# Altium integrated library tPad_Yeongmi.IntLib: 44 symbols
Pins are listed as number, name and electrical type; pins without a type are passive.

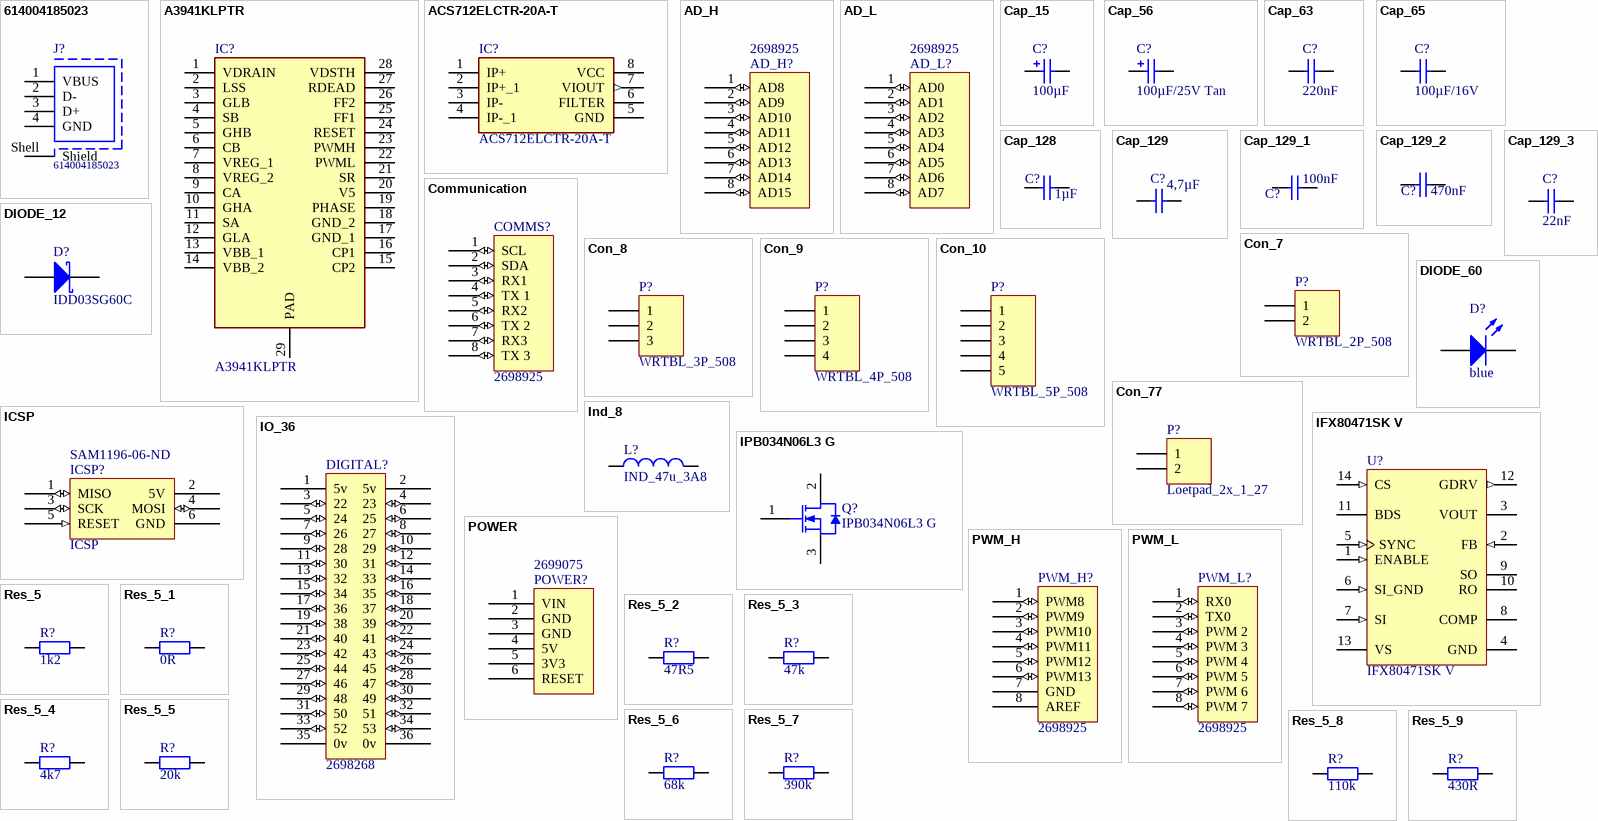
[diagram p0: symbols 614004185023 to Res_5_9]

## 614004185023
designator J?
USB 2.0 Type A Receptacle WR-COM, Vertical, THT, Short Type; Rated Current: 1.5 A; Contact Resistance: 30 mOhm; Working Voltage: 30 VAC; ComponentLink1Description: Manufacturer; ComponentLink1URL: http://www.we-online.de; ComponentLink2Description: Datasheet; ComponentLink2URL: https://katalog.we-online.de/em/datasheet/614004185023.pdf; Part Number: 614004185023; Published Date: September 2018; Publisher: Wurth Elektronik; Orientation: Vertical; Connector Type: USB 2.0 Type A; Operating Temperature: -55 to 85 degC; Mounting Technology: THT; Gender: Receptacle; Packaging: Tray
footprint 614004185023
footprint 614004185023 (USB 2.0 Type A Vertical Short Type THT)
pins: 1 VBUS, 2 D-, 3 D+, 4 GND, Shell Shield

## A3941KLPTR
designator IC?
Integrated Circuit; Manufacturer_Name: Allegro Microsystems; Datasheet Link: http://uk.rs-online.com/web/p/products/7248704; Height: 1.2mm; Manufacturer_Part_Number: A3941KLPTR; RS Part Number: 7248704P; RS Price/Stock: http://uk.rs-online.com/web/p/products/7248704P
footprint SOP65P640X120-29N
footprint SOP65P640X120-29N
footprint SOP65P640X120-29N
pins: 1 VDRAIN, 2 LSS, 3 GLB, 4 SB, 5 GHB, 6 CB, 7 VREG_1, 8 VREG_2, 9 CA, 10 GHA, 11 SA, 12 GLA, 13 VBB_1, 14 VBB_2, 15 CP2, 16 CP1, 17 GND_1, 18 GND_2, 19 PHASE, 20 V5, 21 SR, 22 PWML, 23 PWMH, 24 RESET, 25 FF1, 26 FF2, 27 RDEAD, 28 VDSTH, 29 PAD

## ACS712ELCTR-20A-T
designator IC?
Integrated Circuit; Manufacturer_Name: Allegro Microsystems; Allied_Number: R1076682; Datasheet Link: http://uk.rs-online.com/web/p/products/6807135P; Height: 1.75mm; RS Part Number: 6807135P; RS Price/Stock: http://uk.rs-online.com/web/p/products/6807135P; Manufacturer_Part_Number: ACS712ELCTR-20A-T
footprint SOIC127P600X175-8N
footprint SOIC127P600X175-8N
footprint SOIC127P600X175-8N
pins: 1 IP+, 2 IP+_1, 3 IP-, 4 IP-_1, 5 GND (power), 6 FILTER, 7 VIOUT (out), 8 VCC (power)

## AD_H
designator AD_H?  Supplier Part Number 4: 2698925  (hidden comment: AD_H)
Supplier 1: Arrow; Supplier Part Number 1: 2698940; Supplier 2: Arrow; Supplier Part Number 2: 2698939; Supplier 3: Digi-Key; Supplier Part Number 3: SAM1198-08-ND; Supplier 4: Arrow
footprint Header 8x1 8.5mm (Stackable 8 pin header)
pins: 1 AD8 (io), 2 AD9 (io), 3 AD10 (io), 4 AD11 (io), 5 AD12 (io), 6 AD13 (io), 7 AD14 (io), 8 AD15 (io)

## AD_L
designator AD_L?  Supplier Part Number 5: 2698925  (hidden comment: AD_L)
Supplier 1: Digi-Key; Supplier Part Number 1: SAM1198-08-ND; Supplier 2: Arrow; Supplier Part Number 2: 2698939; Supplier 3: Arrow; Supplier Part Number 3: 2698940; Supplier 4: Arrow; Supplier Part Number 4: 43085273; Supplier 5: Arrow
footprint Header 8x1 8.5mm (Stackable 8 pin header)
pins: 1 AD0 (io), 2 AD1 (io), 3 AD2 (io), 4 AD3 (io), 5 AD4 (io), 6 AD5 (io), 7 AD6 (io), 8 AD7 (io)

## Cap_15
designator C?, comment 100µF
Name: Cap_Elko_rad_100u_35V; RS_number: 228-6767; QR: 1; ax_rad: rad; Capacity: 100u; Voltage: 35V; UID: Cap_15; Name_Hyperlink: Elko 100µF 35VDC; ComponentLink1URL: http://de.rs-online.com/web/search/searchBrowseAction.html?method=getProduct&R=2286767; mounting: THT
footprint Cap_THT_Elko_rad_D8mm
pins: 1, 2
1 alternate drawing of the same symbol

## Cap_56
designator C?, comment 100µF/25V Tan
Name: Cap_tan_47u_25V; RS_number: 684-5284P; QR: 1; Capacity: 47u; Voltage: 25v; UID: Cap_56; Name_Hyperlink: Capacitor Tantalum SMT TR3D 25V 47uF; mounting: SMD
footprint C
pins: 1, 2
1 alternate drawing of the same symbol

## Cap_63
designator C?, comment 220nF
Name: Cap_0805; Capacity: ?F; Voltage: ?V; UID: Cap_63; mounting: SMD
footprint _0805
pins: 1, 2

## Cap_65
designator C?, comment 100µF/16V
Name: Cap_1210; Capacity: ?F; Voltage: ?V; UID: Cap_65; mounting: SMD
footprint _1210
pins: 1, 2

## Cap_128
designator C?, comment 1µF
Name: Cap_0805; QR: 0; UID: Cap_128; ComponentLink1URL: #VALUE!; mounting: SMD
footprint _0805
pins: 1, 2

## Cap_129
designator C?, comment 4,7µF
Name: Cap_0603; QR: 0; UID: Cap_129; mounting: SMD
footprint _0603
pins: 1, 2

## Cap_129_1
designator C?, comment 100nF
Name: Cap_0603; QR: 0; UID: Cap_129; mounting: SMD
footprint _0603
pins: 1, 2

## Cap_129_2
designator C?, comment 470nF
Name: Cap_0603; QR: 0; UID: Cap_129; mounting: SMD
footprint _0603
pins: 1, 2

## Cap_129_3
designator C?, comment 22nF
Name: Cap_0603; QR: 0; UID: Cap_129; mounting: SMD
footprint _0603
pins: 1, 2

## Communication
designator COMMS?  Supplier Part Number 4: 2698925  (hidden comment: Communication)
Supplier 1: Digi-Key; Supplier Part Number 1: SAM1198-08-ND; Supplier 2: Arrow; Supplier Part Number 2: 2698940; Supplier 3: Arrow; Supplier Part Number 3: 2698939; Supplier 4: Arrow
footprint Header 8x1 8.5mm (Stackable 8 pin header)
pins: 1 SCL (io), 2 SDA (io), 3 RX1 (io), 4 TX 1 (io), 5 RX2 (io), 6 TX 2 (io), 7 RX3 (io), 8 TX 3 (io)

## Con_7
designator P?, comment WRTBL_2P_508
RS_number: 193-0586; QR: 0; UID: Con_7; Name: WRTBL_2P_508; Name_Hyperlink: Printklemme 5,08mm 2-polig; ComponentLink1URL: http://at.rs-online.com/web/search/searchBrowseAction.html?method=getProduct&R=1930586; mounting: THT; Pins: 2
footprint WRTBL_2P_508
pins: 1, 2

## Con_8
designator P?, comment WRTBL_3P_508
QR: 0; UID: Con_8; Name: WRTBL_3P_508; mounting: THT; Pins: 3
footprint WRTBL_3P_508
pins: 1, 2, 3

## Con_9
designator P?, comment WRTBL_4P_508
QR: 0; UID: Con_9; Name: WRTBL_4P_508; mounting: THT; Pins: 4
footprint WRTBL_4P_508
pins: 1, 2, 3, 4

## Con_10
designator P?, comment WRTBL_5P_508
QR: 0; UID: Con_10; Name: WRTBL_5P_508; mounting: THT; Pins: 5
footprint WRTBL_5P_508
pins: 1, 2, 3, 4, 5

## Con_77
designator P?, comment Loetpad_2x_1_27
UID: Con_77; Name: Loetpad_2x_1_27; mounting: THT
footprint Loetpad_2x_1_27
pins: 1, 2

## DIODE_12
designator D?, comment IDD03SG60C
Name: 30WQ06FN; Type: Schottky; Current / Power: 3.5 A; RS_number: 300-357P; QR: 0; UID: DIODE_12; Name_Hyperlink: Diode 30WQ06FN; mounting: SMD
footprint TO_252
pins: 1, 2, 3

## DIODE_60
designator D?, comment blue
Name: LED_0603_blau; Type: LED; Colour: blau; RS_number: 697-3610P; QR: 0; UID: DIODE_60; Name_Hyperlink: http://at.rs-online.com/web/p/products/6973610P/; mounting: SMD
footprint LED_0603
pins: 1, 2

## ICSP
designator ICSP?  Supplier Part Number 5: SAM1196-06-ND
Supplier 1: Digi-Key; Supplier Part Number 1: SAM1185-06-ND; Supplier 2: Arrow; Supplier Part Number 2: 2699117; Supplier 3: Arrow; Supplier Part Number 3: 43862781; Supplier 4: Arrow; Supplier Part Number 4: 2699091; Supplier 5: Digi-Key
footprint ICSP
pins: 1 MISO (io), 2 5V (power), 3 SCK (io), 4 MOSI (io), 5 RESET (in), 6 GND (power)

## IFX80471SK V
designator U?
Step-Down DC/DC Controller, 2,300 mA Iq, -40 to 125 degC, PG-DSO-14-1, Reel, Green; Manufacturer: Infineon; Green: TRUE; Iq (typ): 130 uA; Max Number Reflow: 3; Max Peak Reflow Temp: 260 degC; Output: Buck Converter; Tolerance: 3(5)%; VQ (max): adjustable; DatasheetVersion: Rev. 1.0; PackageVersion: Apr-11; PackageReference: PG-DSO-14-1; PackageDescription: 14-Pin Plastic (Green) Dual Small Outline Package, 8.65 x 3.9 mm Body, 1.27 mm Pitch; Supplier 1: Digi-Key; Supplier Part Number 1: IFX80471SK VINTR-ND; Supplier 2: Digi-Key; Supplier Part Number 2: IFX80471SK VINCT-ND; Supplier 3: Digi-Key; Supplier Part Number 3: IFX80471SK VINDKR-ND; Supplier 4: Mouser; Supplier Part Number 4: 726-IFX80471SKV; Halogen-free: TRUE; Inhibit: TRUE; IQ (max): 2,300 mA; MSL: 3; Packing: Reel; Protect: TRUE; Reset: TRUE; Mounting Technology: Surface Mount; PartNumber: IFX80471SK V; ComponentLink1Description: Manufacturer URL; ComponentLink1URL: http://www.infineon.com/; ComponentLink2Description: Datasheet; ComponentLink2URL: http://www.infineon.com/dgdl/DCDC-Controller-IFX80471-Data-Sheet-V10-Infineon.pdf?folderId=db3a304314dca3890115039cf70d0bf0&fileId=db3a30432e398416012e487ec6e42599; ComponentLink3Description: Package Specification; ComponentLink3URL: http://www.infineon.com/dgdl/DCDC-Controller-IFX80471-Data-Sheet-V10-Infineon.pdf?folderId=db3a304314dca3890115039cf70d0bf0&fileId=db3a30432e398416012e487ec6e42599
footprint INF-PG-DSO-14-1_N (SOP, 14-Leads, Body 8.65x3.9mm, Pitch 1.27mm, IPC Medium Density)
footprint INF-PG-DSO-14-1_L (SOP, 14-Leads, Body 8.65x3.9mm, Pitch 1.27mm, IPC High Density)
footprint INF-PG-DSO-14-1_M (SOP, 14-Leads, Body 8.65x3.9mm, Pitch 1.27mm, IPC Low Density)
pins: 1 ENABLE (in) "Active-High enable input (only adjustable version, IFX80471SKV) for the  device.  The device is shut down when ENABLE is driven low. In this shut down-mode the  reference, the output and the external MOSFET are turned off. (See Datasheet)", 2 FB (in) "Feedback input. 1. For adjustable version (IFX80471SKV) connect this pin to an external voltage  divider from the output to GND (see Chapter 7.2). 2. For the 5V fixed output voltage version (IFX80471SKV50) the FB is (See Datasheet)", 3 VOUT (power) "Buck output voltage input. Input for the internal supply. Connect always to the output of the buck converter  (output capacitor).", 4 GND (power) "Ground connection. Analog signal ground", 5 SYNC (in) "Input for external frequency synchronization.  An external clock signal connected to this pin allows switching frequency  synchronization of the device. The internal oscillator is clocked then by the  frequency applied at (See Datasheet)", 6 SI_GND (in) "SI-Ground input.  Ground connection for SI comparator resistor divider. Depending on SI_ENABLE  this input is switched to high impedance or low ohmic to GND.", 7 SI (in) "Sense comparator input.  Input of the low-battery comparator. This input is compared to an internal 1.25V  reference where SO gives the result of the comparison. Can be used for any  comparison, not necessarily as battery (See Datasheet)", 8 COMP "Compensation input. Connect via RC-compensation network to GND.", 9 SO (oc) "Sense comparator output.  Open drain output from SI comparator at the adjustable version (IFX80471SKV), Pull down structure with an internal 20kohm pull up resistor to VOUT at the 5V version  (IFX80471SKV50).", 10 RO (oc) "Reset output.  Open drain output from undervoltage reset comparator at the adjustable version  (IFX80471SKV), Pull down structure with an internal 20kohm pull up resistor to VOUT at the 5V version  (IFX80471SKV50).", 11 BDS (power) "Buck driver supply input.  Connect a ceramic capacitor between BDS and VS to generate clamped gatesource voltage to supply the driver of the PMOS power stage.", 12 GDRV (out) "Gate drive output. Connect to the gate of the external P-Channel MOSFET. The voltage at GDRV  swings between the levels of VS and BDS.", 13 VS (power) "Device supply input.  Connect a 220nF ceramic cap close to the pin in addition to the low ESR tantalum  input capacitance.", 14 CS (in) "Current-sense input.  Connect current-sense resistor between VS and CS. The voltage drop over the  sense-resistor determines the peak current flowing in the buck circuit. The external  MOSFET is turned off when the peak (See Datasheet)"

## Ind_8
designator L?, comment IND_47u_3A8
Inductor; Wuerth_number: 744 7709 470; QR: 0; Inductivity: 47 uH; Current: 3.8 A; UID: Ind_8; Name: IND_47u_3A8; mounting: SMD
footprint WE_PD_XXL
pins: 1, 2

## IO_36
designator DIGITAL?  Supplier Part Number 5: 2698268  (hidden comment: IO_36)
Supplier 1: Digi-Key; Supplier Part Number 1: SAM1196-18-ND; Supplier 2: Arrow; Supplier Part Number 2: 48117090; Supplier 3: Arrow; Supplier Part Number 3: 46093326; Supplier 4: Arrow; Supplier Part Number 4: 2698278; Supplier 5: Arrow
footprint HEADER 36X 8MM (Stackable 10 pin header)
pins: 1 5v (power), 2 5v (power), 3 22 (io) "Digital 22", 4 23 (io) "Digital 23", 5 24 (io) "Digital 24", 6 25 (io) "Digital 25", 7 26 (io) "Digital 26", 8 27 (io) "Digital 27", 9 28 (io) "Digital 28", 10 29 (io) "Digital 29", 11 30 (io) "Digital 30", 12 31 (io) "Digital 31", 13 32 (io) "Digital 32", 14 33 (io) "Digital 33", 15 34 (io) "Digital 34", 16 35 (io) "Digital 35", 17 36 (io) "Digital 36", 18 37 (io) "Digital 37", 19 38 (io) "Digital 38", 20 39 (io) "Digital 39", 21 40 (io) "Digital 40", 22 41 (io) "Digital 41", 23 42 (io) "Digital 42", 24 43 (io) "Digital 43", 25 44 (io) "Digital 44", 26 45 (io) "Digital 45", 27 46 (io) "Digital 46", 28 47 (io) "Digital 47", 29 48 (io) "Digital 48", 30 49 (io) "Digital 49", 31 50 (io) "Digital 50", 32 51 (io) "Digital 51", 33 52 (io) "Digital 52", 34 53 (io) "Digital 53", 35 0v (power), 36 0v (power)

## IPB034N06L3 G
designator Q?
N-Channel OptiMOS 3 Power-Transistor, 60 V VDS, 90 A ID, -55 to 175 degC, PG-TO-263-3-2, Reel, Green; Manufacturer: Infineon; Green: TRUE; ID (max): 90 A; IDpuls (max): 360 A; Polarity: N; Ptot (max): 167 W; QG: 59 nC; RDS (on) (max): 3.7 mOhm; RDS (on) (max) (@4.5V): 5.7 mOhm; Rth: 0.9 K/W; RthJA (max): 62 K/W; VDS (max): 60 V; VGS(th) (max): 2.2 V; VGS(th) (min): 1.2 V; DatasheetVersion: Rev. 2.7; PackageVersion: Rev. 01, 08/2007; PackageReference: PG-TO-263-3-2; PackageDescription: 3-Pin Plastic (Green) Transistor Single Outline Package, 10.06 x 8.98 mm Body, 2.54 mm Pitch; Supplier 1: Digi-Key; Supplier Part Number 1: IPB034N06L3 GTR-ND; Supplier 2: Digi-Key; Supplier Part Number 2: IPB034N06L3 GCT-ND; Supplier 3: Digi-Key; Supplier Part Number 3: IPB034N06L3 GDKR-ND; Supplier 4: Mouser; Supplier Part Number 4: 726-IPB034N06L3G; Halogen-free: TRUE; Packing: Reel; RthJC (max): 0.9 K/W; Mounting Technology: Surface Mount; PartNumber: IPB034N06L3 G; ComponentLink1Description: Manufacturer URL; ComponentLink1URL: http://www.infineon.com/; ComponentLink2Description: Datasheet; ComponentLink2URL: http://www.infineon.com/dgdl/IPP037N06L3_Rev2.7.pdf?folderId=db3a304313b8b5a60113cee8763b02d7&fileId=db3a30431b3e89eb011b4561341f7d38; ComponentLink3Description: Package Specification; ComponentLink3URL: http://www.infineon.com/dgdl/IPB026N06N_Rev2.2.pdf?folderId=db3a304313b8b5a60113cee8763b02d7&fileId=db3a3043372d5cc8013754c7b2a74f7c
footprint INF-PG-TO-263-3-2_A_N (DPAK, 3-Leads, Body 10.06x8.98mm, Pitch 2.54mm, IPC Medium Density)
footprint INF-PG-TO-263-3-2_A_L (DPAK, 3-Leads, Body 10.06x8.98mm, Pitch 2.54mm, IPC High Density)
footprint INF-PG-TO-263-3-2_A_M (DPAK, 3-Leads, Body 10.06x8.98mm, Pitch 2.54mm, IPC Low Density)
footprint INF-PG-TO-263-3-2_A_N
footprint INF-PG-TO-263-3-2_A_N
footprint INF-PG-TO-263-3-2_A_N
pins: 1 GATE, 2 DRAIN, 3 SOURCE

## POWER
designator POWER?  Supplier Part Number 2: 2699075  (hidden comment: POWER)
Supplier 1: Arrow; Supplier Part Number 1: 52553843; Supplier 2: Arrow; Supplier 3: Digi-Key; Supplier Part Number 3: SAM1198-06-ND; Supplier 4: Arrow; Supplier Part Number 4: 2699089; Supplier 5: Arrow; Supplier Part Number 5: 2699088
footprint Header 6x1 8.5mm (Stackable 6 pin header)
pins: 1 VIN (power), 2 GND (power), 3 GND (power), 4 5V (power), 5 3V3 (power), 6 RESET

## PWM_H
designator PWM_H?  Supplier Part Number 4: 2698925  (hidden comment: PWM_H)
Supplier 1: Digi-Key; Supplier Part Number 1: SAM1198-08-ND; Supplier 2: Arrow; Supplier Part Number 2: 2698940; Supplier 3: Arrow; Supplier Part Number 3: 2698939; Supplier 4: Arrow
footprint Header 8x1 8.5mm (Stackable 8 pin header)
pins: 1 PWM8 (io) "PWM 8", 2 PWM9 (io) "PWM 9", 3 PWM10 (io) "PWM 10", 4 PWM11 (io) "PWM 11", 5 PWM12 (io) "PWM 12", 6 PWM13 (io) "PWM 13", 7 GND (power), 8 AREF

## PWM_L
designator PWM_L?  Supplier Part Number 4: 2698925  (hidden comment: PWM_L)
Supplier 1: Arrow; Supplier Part Number 1: 2698940; Supplier 2: Arrow; Supplier Part Number 2: 2698939; Supplier 3: Digi-Key; Supplier Part Number 3: SAM1198-08-ND; Supplier 4: Arrow
footprint Header 8x1 8.5mm (Stackable 8 pin header)
pins: 1 RX0 (io) "PWM 0 & RX0", 2 TX0 (io) "PWM 1 & TX0", 3 PWM 2 (io), 4 PWM 3 (io), 5 PWM 4 (io), 6 PWM 5 (io), 7 PWM 6 (io), 8 PWM 7 (io)

## Res_5
designator R?, comment 1k2
Name: Res_0603; UID: Res_5; ComponentLink1URL: #VALUE!; mounting: SMD
footprint _0603
pins: 1, 2

## Res_5_1
designator R?, comment 0R
Name: Res_0603; UID: Res_5; mounting: SMD
footprint _0603
pins: 1, 2

## Res_5_2
designator R?, comment 47R5
Name: Res_0603; UID: Res_5; mounting: SMD
footprint _0603
pins: 1, 2

## Res_5_3
designator R?, comment 47k
Name: Res_0603; UID: Res_5; mounting: SMD
footprint _0603
pins: 1, 2

## Res_5_4
designator R?, comment 4k7
Name: Res_0603; UID: Res_5; mounting: SMD
footprint _0603
pins: 1, 2

## Res_5_5
designator R?, comment 20k
Name: Res_0603; UID: Res_5; mounting: SMD
footprint _0603
pins: 1, 2

## Res_5_6
designator R?, comment 68k
Name: Res_0603; UID: Res_5; mounting: SMD
footprint _0603
pins: 1, 2

## Res_5_7
designator R?, comment 390k
Name: Res_0603; UID: Res_5; mounting: SMD
footprint _0603
pins: 1, 2

## Res_5_8
designator R?, comment 110k
Name: Res_0603; UID: Res_5; mounting: SMD
footprint _0603
pins: 1, 2

## Res_5_9
designator R?, comment 430R
Name: Res_0603; UID: Res_5; mounting: SMD
footprint _0603
pins: 1, 2

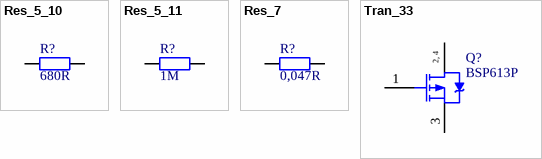
[diagram p1: symbols Res_5_10 to Tran_33]

## Res_5_10
designator R?, comment 680R
Name: Res_0603; UID: Res_5; mounting: SMD
footprint _0603
pins: 1, 2

## Res_5_11
designator R?, comment 1M
Name: Res_0603; UID: Res_5; mounting: SMD
footprint _0603
pins: 1, 2

## Res_7
designator R?, comment 0,047R
Name: Res_1206; UID: Res_7; mounting: SMD
footprint _1206
pins: 1, 2

## Tran_33
designator Q?, comment BSP613P
P-Channel SIPMOS Small-Signal-Transistor, -60 V VDS, -2.9 A ID, -55 to 150 degC, PG-SOT223 (SC-73), Reel, Green; Manufacturer: Infineon; Green: TRUE; ID (max): -2.9 A; IDpuls (max): -11.6 A; Mode: Enhancement; Polarity: P; Pto t (max): 1.8 W; QG: -22 nC; RDS (on) (max): 130 mOhm; Rth: 100 K/W; VDS (max): -60 V; VGS(th) (max): -4 V; VGS(th) (min): -2.1 V; DatasheetVersion: Rev. 2.7; PackageVersion: Apr-08; PackageReference: PG-SOT223 (SC-73); PackageDescription: 4-Pin Small Outline Transistor Package, 6.5 x 3.5 mm Body, 2.3 mm Pitch; Supplier 1: Digi-Key; Supplier Part Number 1: BSP613P-ND; Halogen-free: TRUE; Packing: Reel; Technology: SIPMOS; Mounting Technology: Surface Mount; PartNumber: BSP613P; ComponentLink1Description: Manufacturer URL; ComponentLink1URL: http://www.infineon.com/; ComponentLink2Description: Datasheet; ComponentLink2URL: http://www.infineon.com/dgdl/BSP613P_Rev2.7.pdf?folderId=db3a304314dca38901154a72e3951a65&fileId=db3a30433b47825b013b60ac86a96dc0; ComponentLink3Description: Package Specification; ComponentLink3URL: http://www.infineon.com/dgdl/SOT223-Package_Overview.pdf?folderId=db3a30431936bc4b0119530470b03c3d&fileId=db3a30431936bc4b0119531d40b93c5c; UID: Tran_33; Name: BSP613P; mounting: SMD; Type: P
footprint INF-PG-SOT223_SC-73_N (SOT223, 4-Leads, Body 6.5x3.5mm, Pitch 2.3mm, IPC Medium Density)
footprint INF-PG-SOT223_SC-73_L (SOT223, 4-Leads, Body 6.5x3.5mm, Pitch 2.3mm, IPC High Density)
footprint INF-PG-SOT223_SC-73_M (SOT223, 4-Leads, Body 6.5x3.5mm, Pitch 2.3mm, IPC Low Density)
pins: 1 GATE, 2 DRAIN, 3 SOURCE, 4 DRAIN
text: 2, 4